# Altium schematic symbol library Samtec_30X2_CONN.Schlib: 1 symbol
Pins are listed as number, name and electrical type; pins without a type are passive.

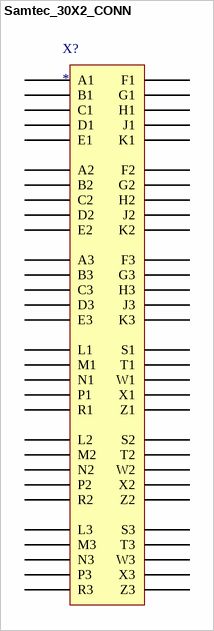
[diagram p0: symbol Samtec_30X2_CONN]

## Samtec_30X2_CONN
designator X?
pins: A1, A2, A3, B1, B2, B3, C1, C2, C3, D1, D2, D3, E1, E2, E3, F1, F2, F3, G1, G2, G3, H1, H2, H3, J1, J2, J3, K1, K2, K3, L1, L2, L3, M1, M2, M3, N1, N2, N3, P1, P2, P3, R1, R2, R3, S1, S2, S3, T1, T2, T3, W1, W2, W3, X1, X2, X3, Z1, Z2, Z3